# EAGLE library part DISP_D8035E (library untitled)
VFD 7-Segment Display Mfr no: NEC LD8035E D-8035-E PDF <http://www.tube-tester.com/sites/nixie/dat_arch/D-8035-E_LD8035.pdf>
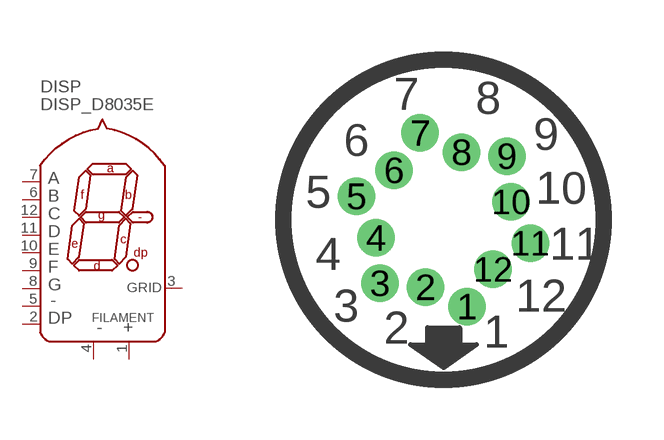
[diagram p35: symbol with the pads of DISP_D8035E; footprint DISP_D8035E]

Designator prefix DISP

## DISP_D8035E  [DISP_D8035E]
1  F+  pwr
2  DP  in
3  GRID  in
4  F-  pwr
5  -  in
6  B  in
7  A  in
8  G  in
9  F  in
10  E  in
11  D  in
12  C  in

## Footprint DISP_D8035E (pad centres in mm)
drill 0.43 round: 1 0.582,-2.173; 2 -0.453,-1.69; 3 -1.591,-1.591; 4 -1.69,-0.453; 5 -2.173,0.582; 6 -1.237,1.237; 7 -0.582,2.173; 8 0.453,1.69; 9 1.591,1.591; 10 1.69,0.453; 11 2.173,-0.582; 12 1.237,-1.237